# Altium footprint library SFMC-110-02-L-D.PcbLib: 1 footprints
Each footprint in its own frame and in the unit in brackets; x right, y up, seen from the top. Pads: shape width x height; smd on the part's side, far side on the other; paste and mask are expansions set on the pad; w line width, h text height; cw(c..) or ccw(c..) is an arc to the next point about the centre after c.
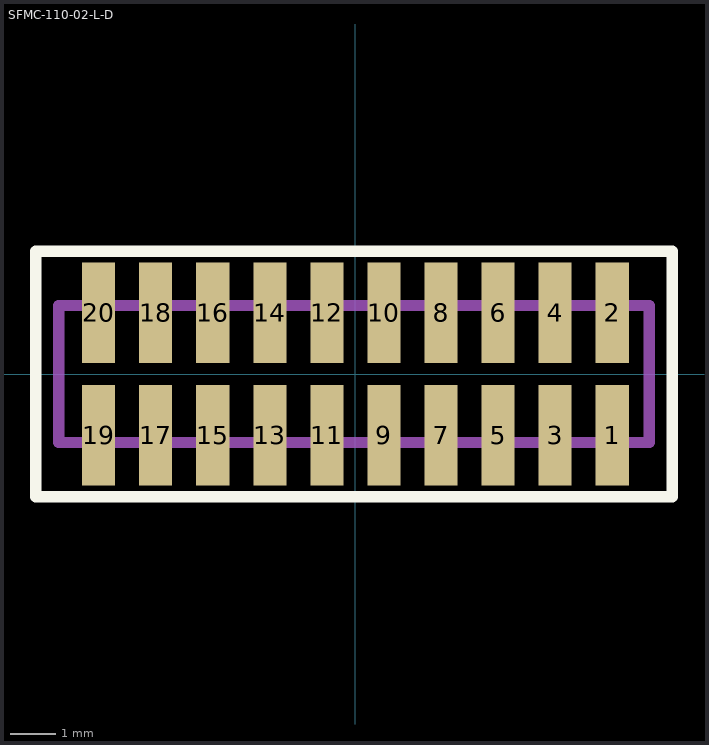
[diagram p0: the footprint, top view; thin cyan lines are the x and y axes]

## SFMC-110-02-L-D [mil] "CONN RCPT 20POS 0.05 GOLD SMD"
height 179.92
pads (20):
  rect 29x88 smd: 1(225,-53.5) 2(225,53.5) 3(175,-53.5) 4(175,53.5) 5(125,-53.5) 6(125,53.5) 7(75,-53.5) 8(75,53.5) 9(25,-53.5) 10(25,53.5) 11(-25,-53.5) 12(-25,53.5) 13(-75,-53.5) 14(-75,53.5) 15(-125,-53.5) 16(-125,53.5) 17(-175,-53.5) 18(-175,53.5) 19(-225,-53.5) 20(-225,53.5)
Top Overlay:
  lines w10: -280,-107.5 -280,107.5 277.5,107.5 277.5,-107.5 -280,-107.5
Mechanical 1:
  lines w10: -260,-60 -260,60 257.5,60 257.5,-60 -260,-60
3D body "SFMC-110-02-L-D.stp": height 180, standoff -5, extent -257.5,-82.5 257.5,82.5